# Altium integrated library 19-217GHC-YR1S23T.IntLib: 1 symbol
Pins are listed as number, name and electrical type; pins without a type are passive.

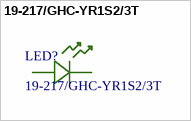
[diagram p0: symbol 19-217/GHC-YR1S2/3T]

## 19-217/GHC-YR1S2/3T
designator LED?
No Description Available; Vendor: Everlight Electronics; Built_By: EMA_Cory; SourceLibrary: Add_to_database_2021-02-25; Type: DEV; Datasheet: https://media.digikey.com/pdf/Data%20Sheets/Everlight%20PDFs/19-217,GHC-YR1S2,3T.pdf; Manufacturer_Part_Number: 19-217/GHC-YR1S2/3T; Copyright: Copyright (C) 2018 Accelerated Designs. All rights reserved; RefDes: RefDes
footprint LED_19-217/GHC-YR1S2/3T_EVE
pins: 1, 2